# Altium schematic symbol library Schlib_Meteor.SchLib: 2 symbols
Pins are listed as number, name and electrical type; pins without a type are passive.

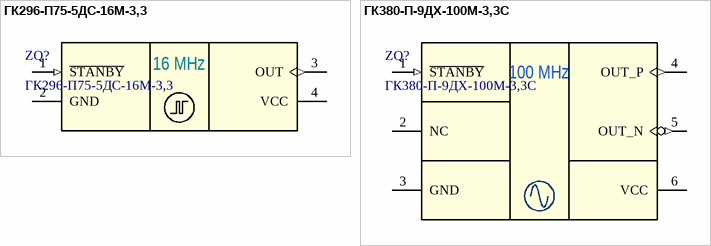
[diagram p0: symbols ГК296-П75-5ДС-16М-3,3 to ГК380-П-9ДХ-100М-3,3С]

## ГК296-П75-5ДС-16М-3,3
designator ZQ?
16 MHz clock oscillator; Manufacturer: АО «Завод «Метеор»; Part Number: ГК296-П75-5ДС-16М-3,3; Package: SMD7050
footprint GK296-P75
pins: 1 ~{STANBY} (in), 2 GND (power), 3 OUT (out), 4 VCC (power)
text: 16 MHz

## ГК380-П-9ДХ-100М-3,3С
designator ZQ?
100 MHz clock oscillator; Manufacturer: АО «Завод «Метеор»; Part Number: ГК380-П-9ДХ-100М-3,3С; Package: SMD 6PIN
footprint GK380-P
pins: 1 ~{STANBY} (in), 2 NC (hiz), 3 GND (power), 4 OUT_P (out), 5 OUT_N (out), 6 VCC (power)
text: 100 MHz